# Altium footprint library PCB2.PcbLib: 98 footprints (part 5 of 7)
Each footprint in its own frame and in the unit in brackets; x right, y up, seen from the top. Pads: shape width x height; smd on the part's side, far side on the other; paste and mask are expansions set on the pad; w line width, h text height; cw(c..) or ccw(c..) is an arc to the next point about the centre after c.
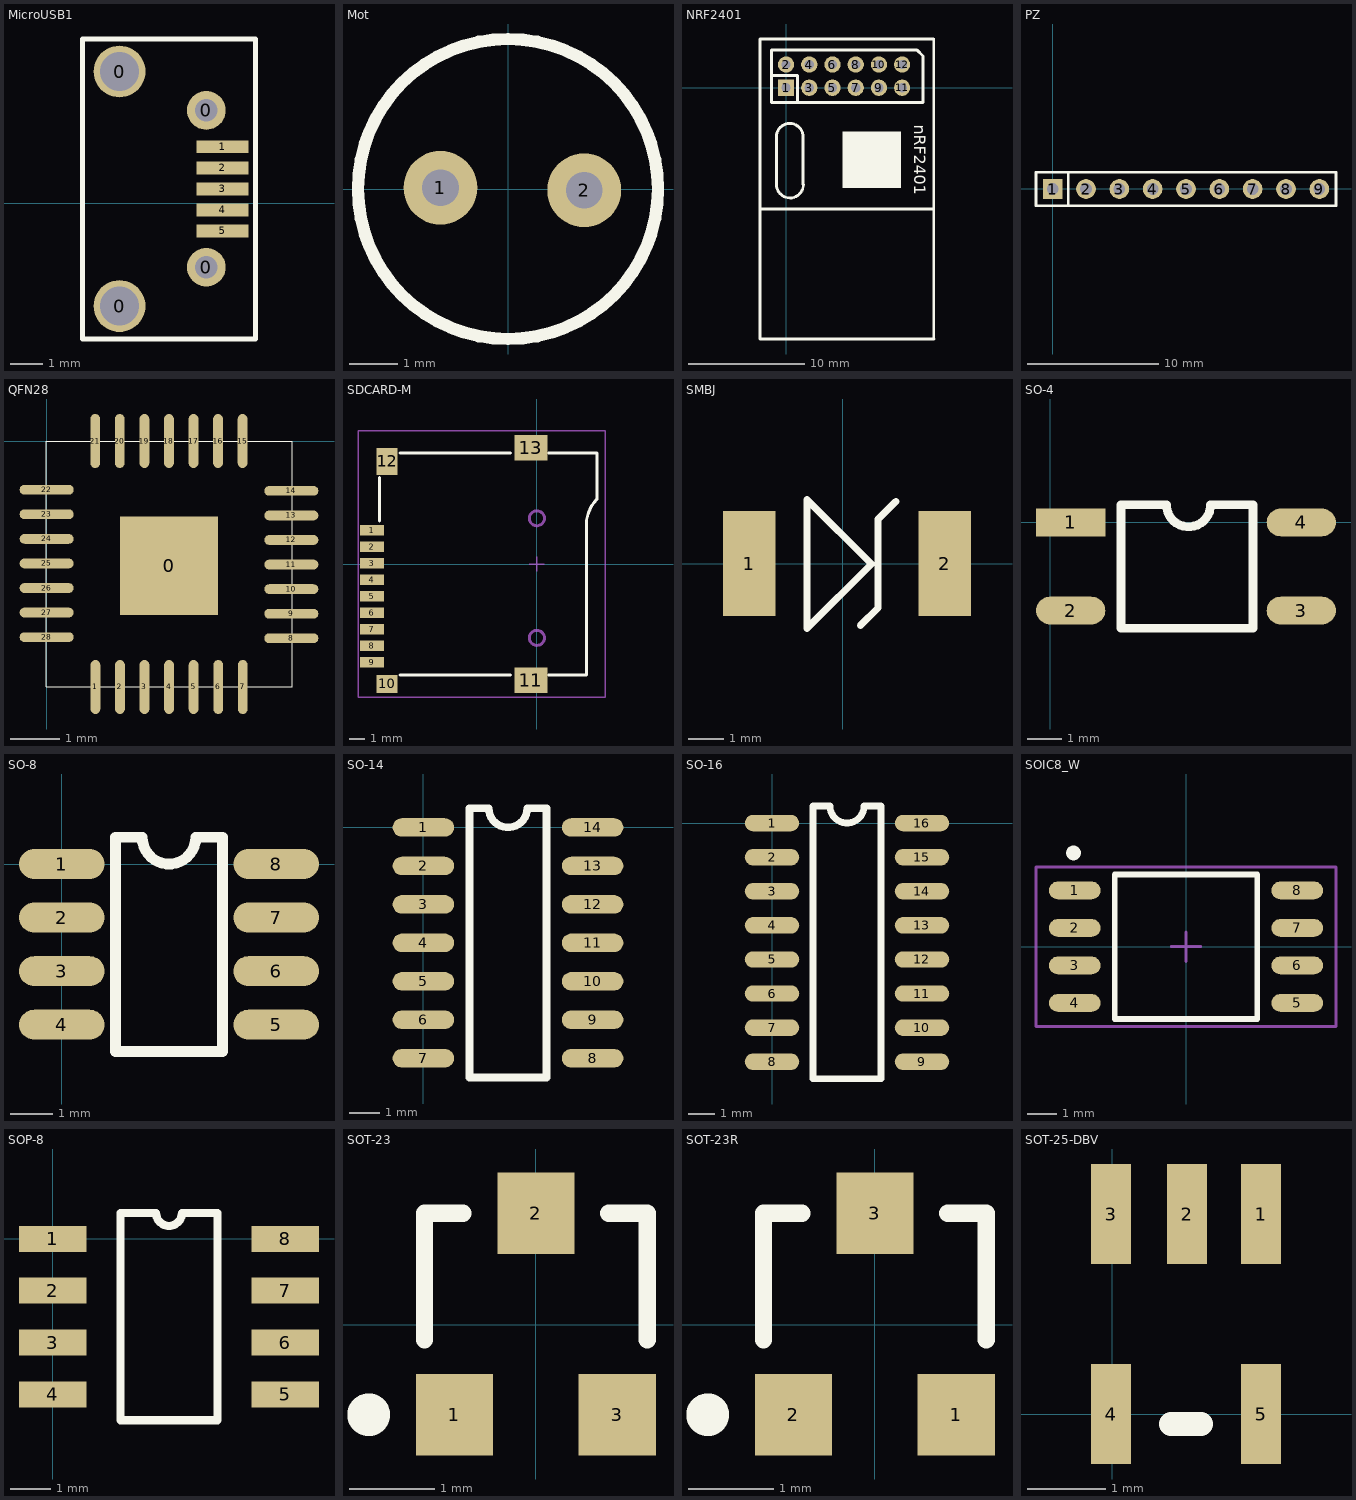
[diagram p4: the footprints below, top view; thin cyan lines are the x and y axes]

## MicroUSB1 [mm]
pads (9):
  round 1.6 hole 1.2: 0(9.652,-3.175) 0(9.652,4.075)
  round 1.2 hole 0.7: 0(12.332,-1.975) 0(12.332,2.875)
  rect 1.6x0.4 smd: 1(12.835,1.75) 2(12.835,1.1) 3(12.835,0.45) 4(12.835,-0.2) 5(12.835,-0.85)
Top Overlay:
  lines w0.15: 8.509,-4.191 13.849,-4.191 13.849,5.08 8.509,5.08 8.509,-4.191

## Mot [mil]
pads (2):
  round 60 hole 30: 1(-55,1) 2(62,-1)
Top Overlay:
  circle w10: c0,0 r122.05

## NRF2401 [mm]
pads (12):
  rect 1.4x1.4 hole 0.8: 1(0,0)
  round 1.4 hole 0.8: 2(0,2) 3(2,0) 4(2,2) 5(4,0) 6(4,2) 7(6,0) 8(6,2) 9(8,0) 10(8,2) 11(10,0) 12(10,2)
Top Overlay:
  rectangle: 4.85,-8.625 9.9,-3.75
  lines w0.254: -2.25,-10.45 12.675,-10.45 12.725,-10.4 ; -1.27,1.045 0.995,1.045 0.995,-1.27 ; -0.843,-4.235 cw(c0.316,-4.239) 1.475,-4.25 1.475,-8.35 ; -0.825,-4.225 -0.825,-8.325 ccw(c0.334,-8.336) 1.493,-8.34 ; 11.25,3.27 11.255,3.27 ; 12.75,-21.65 12.725,-21.65 ; 11.255,3.27 -1.27,3.27 -1.27,-1.27 11.8,-1.27 11.8,2.725 11.255,3.27 ; 12.725,-21.65 12.725,4.175 12.7,4.2 -2.25,4.2 -2.25,-21.65 12.725,-21.65
  text "nRF2401" at 11.05,-3.175 h1.02

## PZ [mm] "Connector; Header; 6 Position"
pads (9):
  rect 1.5x1.5 hole 0.9: 1(0,0)
  round 1.5 hole 0.9: 2(2.54,0) 3(5.08,0) 4(7.62,0) 5(10.16,0) 6(12.7,0) 7(15.24,0) 8(17.78,0) 9(20.32,0)
Top Overlay:
  lines w0.2: 1.194,-1.245 1.194,1.245 ; -1.27,-1.27 13.97,-1.27 21.59,-1.27 21.59,1.27 13.97,1.27 -1.27,1.27 -1.27,-1.27

## QFN28 [mm]
pads (29):
  rect 2x2 smd: 0(2.489,-2.54)
  oval 0.2x1.1 smd: 1(0.991,-5.004) 2(1.491,-5.004) 3(1.991,-5.004) 4(2.491,-5.004) 5(2.991,-5.004) 6(3.491,-5.004) 7(3.991,-5.004) 15(3.988,0) 16(3.488,0) 17(2.988,0) 18(2.488,0) 19(1.988,0) 20(1.488,0) 21(0.988,0)
  oval 1.1x0.2 smd: 8(4.978,-4.013) 9(4.978,-3.513) 10(4.978,-3.013) 11(4.978,-2.513) 12(4.978,-2.013) 13(4.978,-1.513) 14(4.978,-1.013) 22(0,-0.991) 23(0,-1.491) 24(0,-1.991) 25(0,-2.491) 26(0,-2.991) 27(0,-3.491) 28(0,-3.991)
Top Overlay:
  lines w0.025: -0.006,-5.003 -0.006,-0.003 4.994,-0.003 4.994,-5.003 -0.006,-5.003

## SDCARD-M [mm]
height 1.5
pads (13):
  rect 1.6x0.7 smd: 1(-11.008,2.25) 2(-11.008,1.15) 3(-11.008,0.05) 4(-11.008,-1.05) 5(-11.008,-2.15) 6(-11.008,-3.25) 7(-11.008,-4.35) 8(-11.008,-5.45) 9(-11.008,-6.55)
  rect 1.4x1.2 smd: 10(-10,-8.004)
  rect 2.2x1.7 smd: 11(-0.4,-7.75) 13(-0.4,7.75)
  rect 1.4x1.8 smd: 12(-10,6.85)
Top Overlay:
  lines w0.2: -10.5,2.88 -10.5,5.756 ; -9.144,-7.4 -1.778,-7.4 ; -9.144,7.4 -1.778,7.4 ; 0.762,-7.4 3.3,-7.4 3.3,1.016 ; 0.762,7.4 4,7.4 4,4.318 ccw(c5.69,2.628) 3.3,2.628 3.3,0.762
Mechanical 1:
  circle w0.2: c0,3.05 r0.5
  circle w0.2: c0,-4.93 r0.5
Mechanical 15:
  lines w0.1: -0.5,0 0.5,0 ; 0,-0.5 0,0.5 ; -11.938,-8.89 -11.938,8.89 4.572,8.89 4.572,-8.89 -11.938,-8.89

## SMBJ [mm]
pads (2):
  rect 1.5x3 smd: 1(-2.667,0) 2(2.921,0)
Top Overlay:
  lines w0.203: 0.508,-1.778 1.016,-1.27 1.016,1.27 1.524,1.778 ; -1.016,-1.854 0.826,-0.013 -1.016,1.829 -1.016,-1.854

## SO-4 [mm]
height 1.75
pads (4):
  rect 2x0.8 smd: 1(0.589,-0.001)
  oval 2x0.8 smd: 2(0.589,-2.541) 3(7.239,-2.541) 4(7.239,-0.001)
Top Overlay:
  lines w0.254: 2.04,0.507 2.04,-3.049 4.834,-3.049 5.85,-3.049 5.85,0.507 4.623,0.507 ; 2.041,0.508 3.353,0.508 ccw(c3.988,0.508) 4.623,0.508

## SO-8 [mil]
pads (8):
  oval 80x28 smd: 1(0,0) 2(0,-50) 3(0,-100) 4(0,-150) 5(200,-150) 6(200,-100) 7(200,-50) 8(200,0)
Top Overlay:
  lines w10: 72,25 50,25 50,-175 150,-175 150,25 125,25 cw(c100,25) 75,25

## SO-14 [mil]
pads (14):
  oval 80x24 smd: 1(0,0) 2(0,-50) 3(0,-100) 4(0,-150) 5(0,-200) 6(0,-250) 7(0,-300) 8(220,-300) 9(220,-250) 10(220,-200) 11(220,-150) 12(220,-100) 13(220,-50) 14(220,0)
Top Overlay:
  lines w10: 60,-325 60,25 85,25 ccw(c110,25) 135,25 160,25 160,-325 60,-325

## SO-16 [mil]
pads (16):
  oval 80x24 smd: 1(0,0) 2(0,-50) 3(0,-100) 4(0,-150) 5(0,-200) 6(0,-250) 7(0,-300) 8(0,-350) 9(220,-350) 10(220,-300) 11(220,-250) 12(220,-200) 13(220,-150) 14(220,-100) 15(220,-50) 16(220,0)
Top Overlay:
  lines w10: 60,-375 60,25 85,25 ccw(c110,25) 135,25 160,25 160,-375 60,-375

## SOIC8_W [mm] "SPI_FLASH"
height 1.75
pads (8):
  oval 1.75x0.6 smd: 1(-3.768,1.905) 2(-3.768,0.635) 3(-3.768,-0.635) 4(-3.768,-1.905) 5(3.768,-1.905) 6(3.768,-0.635) 7(3.768,0.635) 8(3.768,1.905)
Top Overlay:
  circle w0.25: c-3.808,3.175 r0.125
  lines w0.2: -2.413,-2.45 2.413,-2.45 2.413,2.45 -2.413,2.45 -2.413,-2.45
Mechanical 15:
  lines w0.1: -0.5,0 0.5,0 ; 0,-0.5 0,0.5 ; -5.08,-2.7 5.08,-2.7 5.08,2.7 -5.08,2.7 -5.08,-2.7

## SOP-8 [mil]
pads (8):
  rect 65x25 smd: 1(0,0) 2(0,-50) 3(0,-100) 4(0,-150) 5(224.41,-150) 6(224.41,-100) 7(224.41,-50) 8(224.41,0)
Top Overlay:
  lines w7.87: 65.37,-175 65.37,25 99.7,25 ccw(c112.2,25) 124.7,25 159.04,25 159.04,-175 65.37,-175

## SOT-23 [mm]
pads (3):
  rect 0.9x0.95 smd: 1(-0.95,-1.048) 2(0,1.302) 3(0.95,-1.048)
Top Overlay:
  circle w0.25: c-1.95,-1.048 r0.125
  lines w0.2: -1.3,-0.173 -1.3,1.302 -0.85,1.302 ; 0.85,1.302 1.3,1.302 1.3,-0.173

## SOT-23R [mm]
pads (3):
  rect 0.9x0.95 smd: 1(0.95,-1.048) 2(-0.95,-1.048) 3(0,1.302)
Top Overlay:
  circle w0.25: c-1.95,-1.048 r0.125
  lines w0.2: -1.3,-0.173 -1.3,1.302 -0.85,1.302 ; 0.85,1.302 1.3,1.302 1.3,-0.173

## SOT-25-DBV [mil]
height 47.24
pads (5):
  rect 20x50 smd: 1(74.37,100.21) 2(37.37,100.21) 3(-0.63,100.21) 4(-0.63,0.21) 5(74.37,0.21)
Top Overlay:
  lines w12: 29.37,-4.79 44.37,-4.79
3D body "SOT-23-5.STEP": height -14.96, standoff -62.2, extent -20.09,-6.12 94.09,104.12